# EAGLE library part IC_DIL18 (library dp_devices)
Universal 18 pins IC
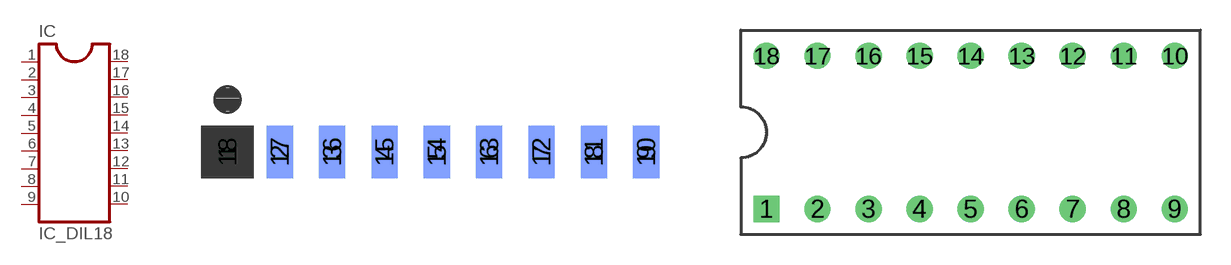
[diagram p35: symbol with the pads of EGDE2X9; footprints EGDE2X9, DIP18]

Designator prefix IC

## IC_DIL18-EDGE  [EGDE2X9]
1  1
2  2
3  3
4  4
5  5
6  6
7  7
8  8
9  9
10  10
11  11
12  12
13  13
14  14
15  15
16  16
17  17
18  18

## IC_DIL18-PTH  [DIP18]
Pads as for EGDE2X9

## IC_DIL18-SOIC-18W  [SOIC-18W]
P1  1
P2  2
P3  3
P4  4
P5  5
P6  6
P7  7
P8  8
P9  9
P10  10
P11  11
P12  12
P13  13
P14  14
P15  15
P16  16
P17  17
P18  18

## IC_DIL18-SOIC-18NW  [SOIC-18NW]
Pads as for SOIC-18W

## Footprint EGDE2X9 (pad centres in mm)
smd 1.27 x 2.54: 1 -10.16,0; 2 -7.62,0; 3 -5.08,0; 4 -2.54,0; 5 0,0; 6 2.54,0; 7 5.08,0; 8 7.62,0; 9 10.16,0
smd 1.27 x 2.54 bottom: 10 10.16,0; 11 7.62,0; 12 5.08,0; 13 2.54,0; 14 0,0; 15 -2.54,0; 16 -5.08,0; 17 -7.62,0; 18 -10.16,0

## Footprint DIP18 (pad centres in mm)
drill 0.8 square: 1 -10.16,-3.81
drill 0.8 round: 2 -7.62,-3.81; 3 -5.08,-3.81; 4 -2.54,-3.81; 5 0,-3.81; 6 2.54,-3.81; 7 5.08,-3.81; 8 7.62,-3.81; 9 10.16,-3.81; 10 10.16,3.81; 11 7.62,3.81; 12 5.08,3.81; 13 2.54,3.81; 14 0,3.81; 15 -2.54,3.81; 16 -5.08,3.81; 17 -7.62,3.81; 18 -10.16,3.81

## Footprint SOIC-18W (pad centres in mm)
SSOP-18 Wide Pad size: 0.6 x 1.5 mm Pad pitch: 1.27mm Pad pitch lateral: 9.62mm
smd 0.6 x 1.5: P1 -5.08,-4.81; P2 -3.81,-4.81; P3 -2.54,-4.81; P4 -1.27,-4.81; P5 0,-4.81; P6 1.27,-4.81; P7 2.54,-4.81; P8 3.81,-4.81; P9 5.08,-4.81; P10 5.08,4.81; P11 3.81,4.81; P12 2.54,4.81; P13 1.27,4.81; P14 0,4.81; P15 -1.27,4.81; P16 -2.54,4.81; P17 -3.81,4.81; P18 -5.08,4.81

## Footprint SOIC-18NW (pad centres in mm)
SSOP-18 Narrow - Wide Pad size: 0.6 x 3.56 mm Pad pitch: 1.27mm Pad pitch lateral: 7.56mm
smd 0.6 x 3.56: P1 -5.08,-3.78; P2 -3.81,-3.78; P3 -2.54,-3.78; P4 -1.27,-3.78; P5 0,-3.78; P6 1.27,-3.78; P7 2.54,-3.78; P8 3.81,-3.78; P9 5.08,-3.78; P10 5.08,3.78; P11 3.81,3.78; P12 2.54,3.78; P13 1.27,3.78; P14 0,3.78; P15 -1.27,3.78; P16 -2.54,3.78; P17 -3.81,3.78; P18 -5.08,3.78